# EAGLE library part OLED_MODULE (library jason_eagle6)
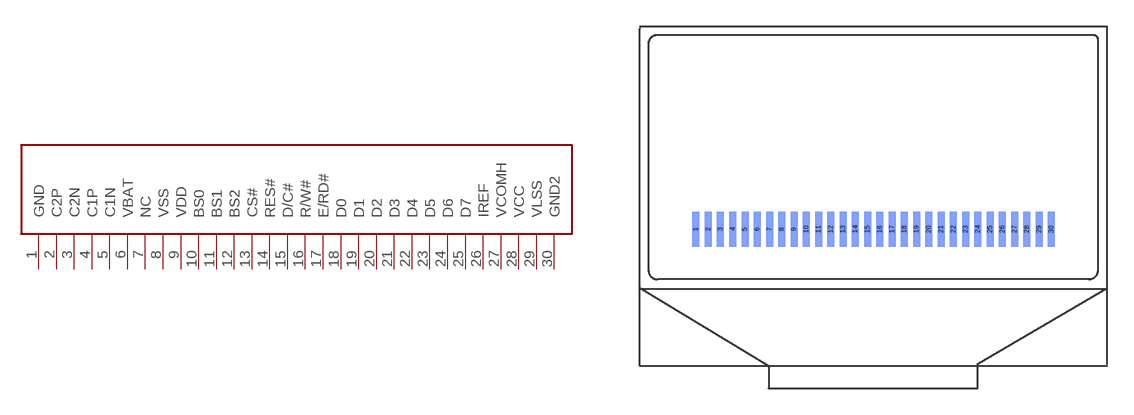
[diagram p1: symbol with the pads of OLED_CONN; footprint OLED_CONN]

Designator prefix -

## OLED_MODULE  [OLED_CONN]
1  GND  pwr
2  C2P
3  C2N
4  C1P
5  C1N
6  VBAT  pwr
7  NC  nc
8  VSS  pwr
9  VDD  pwr
10  BS0
11  BS1
12  BS2
13  CS#
14  RES#
15  D/C#
16  R/W#
17  E/RD#
18  D0
19  D1
20  D2
21  D3
22  D4
23  D5
24  D6
25  D7
26  IREF  pwr
27  VCOMH  pwr
28  VCC  pwr
29  VLSS  pwr
30  GND2  pwr

## Footprint OLED_CONN (pad centres in mm)
smd 0.4 x 2 bottom: 1 3.211,14.81; 2 3.911,14.81; 3 4.611,14.81; 4 5.311,14.81; 5 6.011,14.81; 6 6.711,14.81; 7 7.411,14.81; 8 8.111,14.81; 9 8.811,14.81; 10 9.511,14.81; 11 10.211,14.81; 12 10.911,14.81; 13 11.611,14.81; 14 12.311,14.81; 15 13.011,14.81; 16 13.711,14.81; 17 14.411,14.81; 18 15.111,14.81; 19 15.811,14.81; 20 16.511,14.81; 21 17.211,14.81; 22 17.911,14.81; 23 18.611,14.81; 24 19.311,14.81; 25 20.011,14.81; 26 20.711,14.81; 27 21.411,14.81; 28 22.111,14.81; 29 22.811,14.81; 30 23.511,14.81